# Altium schematic symbol library RH06-T.SchLib: 1 symbol
Pins are listed as number, name and electrical type; pins without a type are passive.

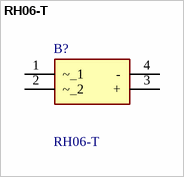
[diagram p0: symbol RH06-T]

## RH06-T
designator B?
Bridge Rectifiers 0.5A 600V; Manufacturer_Name: Diodes Inc.; Geometry.Height: 3mm; Mouser Part Number: 621-RH06-T; Mouser Price/Stock: https://www.mouser.co.uk/ProductDetail/Diodes-Incorporated/RH06-T?qs=sxN%252BoM2fis%2FIz4Q66ep0xQ%3D%3D; Manufacturer_Part_Number: RH06-T; Datasheet Link: https://www.diodes.com/assets/Datasheets/ds30137.pdf
footprint SOP250P700X300-4N
pins: 1 ~_1, 2 ~_2, 3 +, 4 -